# EAGLE library part CH7026B-TF (library X893)
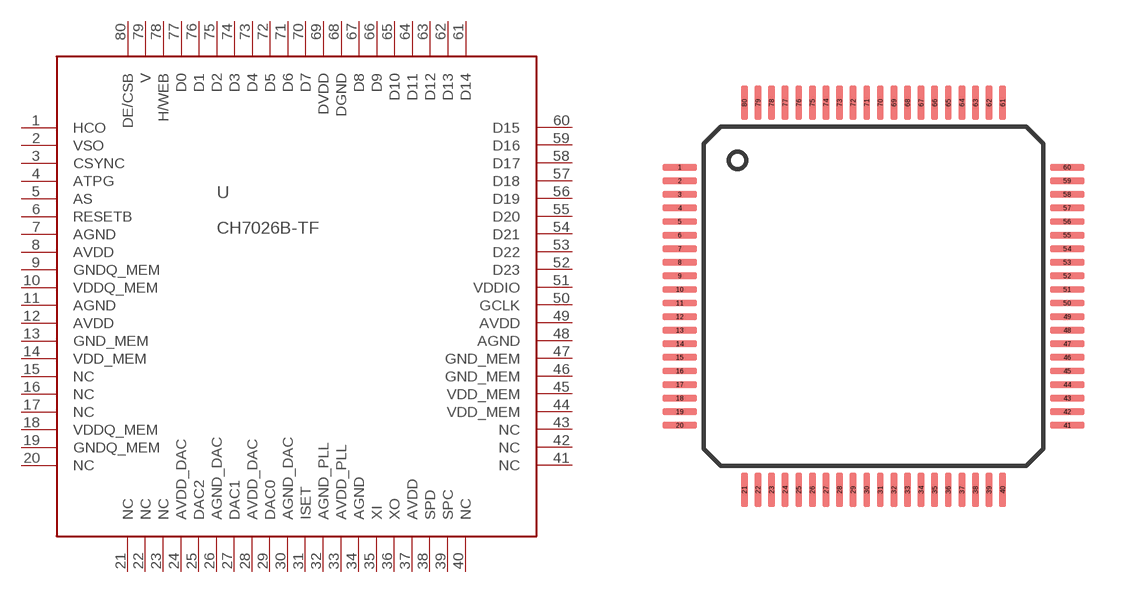
[diagram p173: symbol with the pads of LQFP80-10X10; footprint LQFP80-10X10]

Designator prefix U

## CH7026B-TF  [LQFP80-10X10]
1  HCO  out
2  VSO  out
3  CSYNC  out
4  ATPG  in
5  AS  in
6  RESETB  in
7  AGND  sup
8  AVDD
9  GNDQ_MEM  sup
10  VDDQ_MEM  pwr
11  AGND  sup
12  AVDD  pwr
13  GND_MEM  sup
14  VDD_MEM  pwr
15  NC
16  NC
17  NC
18  VDDQ_MEM  pwr
19  GNDQ_MEM  sup
20  NC
21  NC
22  NC
23  NC
24  AVDD_DAC  pwr
25  DAC2
26  AGND_DAC  sup
27  DAC1
28  AVDD_DAC  pwr
29  DAC0
30  AGND_DAC  sup
31  ISET
32  AGND_PLL  sup
33  AVDD_PLL
34  AGND  sup
35  XI  in
36  XO  out
37  AVDD  pwr
38  SPD
39  SPC  in
40  NC
41  NC
42  NC
43  NC
44  VDD_MEM  pwr
45  VDD_MEM  pwr
46  GND_MEM  sup
47  GND_MEM  sup
48  AGND  sup
49  AVDD  pwr
50  GCLK  in
51  VDDIO  pwr
52  D23
53  D22
54  D21
55  D20
56  D19
57  D18
58  D17
59  D16
60  D15
61  D14
62  D13
63  D12
64  D11
65  D10
66  D9
67  D8
68  DGND  sup
69  DVDD  pwr
70  D7
71  D6
72  D5
73  D4
74  D3
75  D2
76  D1
77  D0
78  H/WEB
79  V
80  DE/CSB  in

## Footprint LQFP80-10X10 (pad centres in mm)
smd 1 x 0.2: 1 -5.7,3.8; 2 -5.7,3.4; 3 -5.7,3; 4 -5.7,2.6; 5 -5.7,2.2; 6 -5.7,1.8; 7 -5.7,1.4; 8 -5.7,1; 9 -5.7,0.6; 10 -5.7,0.2; 11 -5.7,-0.2; 12 -5.7,-0.6; 13 -5.7,-1; 14 -5.7,-1.4; 15 -5.7,-1.8; 16 -5.7,-2.2; 17 -5.7,-2.6; 18 -5.7,-3; 19 -5.7,-3.4; 20 -5.7,-3.8; 41 5.7,-3.8; 42 5.7,-3.4; 43 5.7,-3; 44 5.7,-2.6; 45 5.7,-2.2; 46 5.7,-1.8; 47 5.7,-1.4; 48 5.7,-1; 49 5.7,-0.6; 50 5.7,-0.2; 51 5.7,0.2; 52 5.7,0.6; 53 5.7,1; 54 5.7,1.4; 55 5.7,1.8; 56 5.7,2.2; 57 5.7,2.6; 58 5.7,3; 59 5.7,3.4; 60 5.7,3.8
smd 0.2 x 1: 21 -3.8,-5.7; 22 -3.4,-5.7; 23 -3,-5.7; 24 -2.6,-5.7; 25 -2.2,-5.7; 26 -1.8,-5.7; 27 -1.4,-5.7; 28 -1,-5.7; 29 -0.6,-5.7; 30 -0.2,-5.7; 31 0.2,-5.7; 32 0.6,-5.7; 33 1,-5.7; 34 1.4,-5.7; 35 1.8,-5.7; 36 2.2,-5.7; 37 2.6,-5.7; 38 3,-5.7; 39 3.4,-5.7; 40 3.8,-5.7; 61 3.8,5.7; 62 3.4,5.7; 63 3,5.7; 64 2.6,5.7; 65 2.2,5.7; 66 1.8,5.7; 67 1.4,5.7; 68 1,5.7; 69 0.6,5.7; 70 0.2,5.7; 71 -0.2,5.7; 72 -0.6,5.7; 73 -1,5.7; 74 -1.4,5.7; 75 -1.8,5.7; 76 -2.2,5.7; 77 -2.6,5.7; 78 -3,5.7; 79 -3.4,5.7; 80 -3.8,5.7